# EAGLE library part USB-B (library Zoli2_2015-02-22)
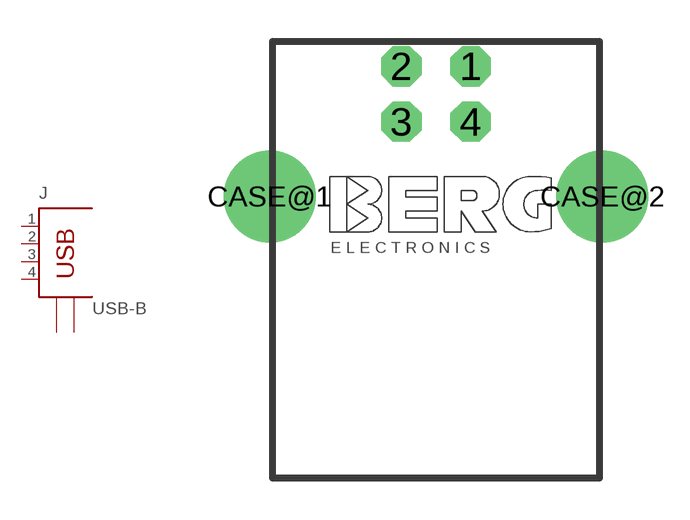
[diagram p28: symbol with the pads of USBCONNB; footprint USBCONNB]

Designator prefix J

## USB-B  [USBCONNB]
1  1
2  2
3  3
4  4
CASE@1  CASE
CASE@2  CASE

## Footprint USBCONNB (pad centres in mm)
BERG
drill 0.95 octagon: 1 1.25,4.71; 2 -1.25,4.71; 3 -1.25,2.71; 4 1.25,2.71
drill 2.3 round: CASE@1 -6,0; CASE@2 6,0